# EAGLE library part RJ11 (library con-rj-11-6P6)
RJ11, RJ22 RJ11 and RJ22 jacks side mounted http://www.tycoelectronics.com
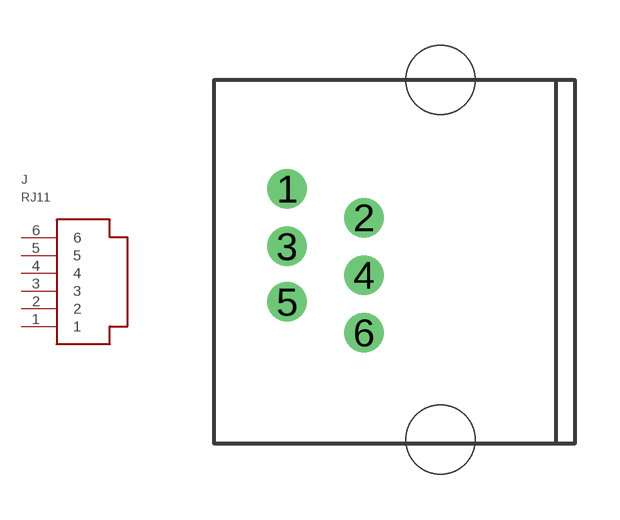
[diagram p0: symbol with the pads of RJ11; footprint RJ11]

Designator prefix J

## RJ11  [RJ11]
1  1
2  2
3  3
4  4
5  5
6  6

## Footprint RJ11 (pad centres in mm)
RJ11, RJ22 RJ11 and RJ22 jacks side mounted http://www.tycoelectronics.com
drill 0.8: 1 -6.35,0.826; 2 -3.81,-0.127; 3 -6.35,-1.079; 4 -3.81,-2.032; 5 -6.35,-2.921; 6 -3.81,-3.937
hole 2.286 at -1.27,-7.493
hole 2.286 at -1.27,4.445